# Altium schematic symbol library ADM2582EBRWZ.Schlib: 1 symbol
Pins are listed as number, name and electrical type; pins without a type are passive.

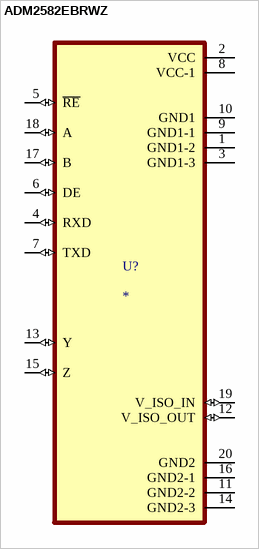
[diagram p0: symbol ADM2582EBRWZ]

## ADM2582EBRWZ
designator U?
Transceiver RS485 1/1 16Mbps SOIC-20_300mil RS-485/RS-422 ICs RoHS; LCSC Part #: C39494; JLCPCB Part Type: Extended; ComponentLink1Description: LCSC - Analog Devices ADM2582EBRWZ; ComponentLink1URL: https://lcsc.com/product-detail/RS-485-RS-422_ADI_ADM2582EBRWZ-REEL7_ADM2582EBRWZ-REEL7_C39494.html/?href=jlc-SMT
footprint SOIC127P1032X265-20N
pins: 1 GND1-2 (power), 2 VCC (power), 3 GND1-3 (power), 4 RXD (io), 5 ~{RE} (io), 6 DE (io), 7 TXD (io), 8 VCC-1 (power), 9 GND1-1 (power), 10 GND1 (power), 11 GND2-2 (power), 12 V_ISO_OUT (io), 13 Y (io), 14 GND2-3 (power), 15 Z (io), 16 GND2-1 (power), 17 B (io), 18 A (io), 19 V_ISO_IN (io), 20 GND2 (power)